# Altium integrated library SparkFun-Retired.Library.IntLib: 390 symbols (part 2 of 5)
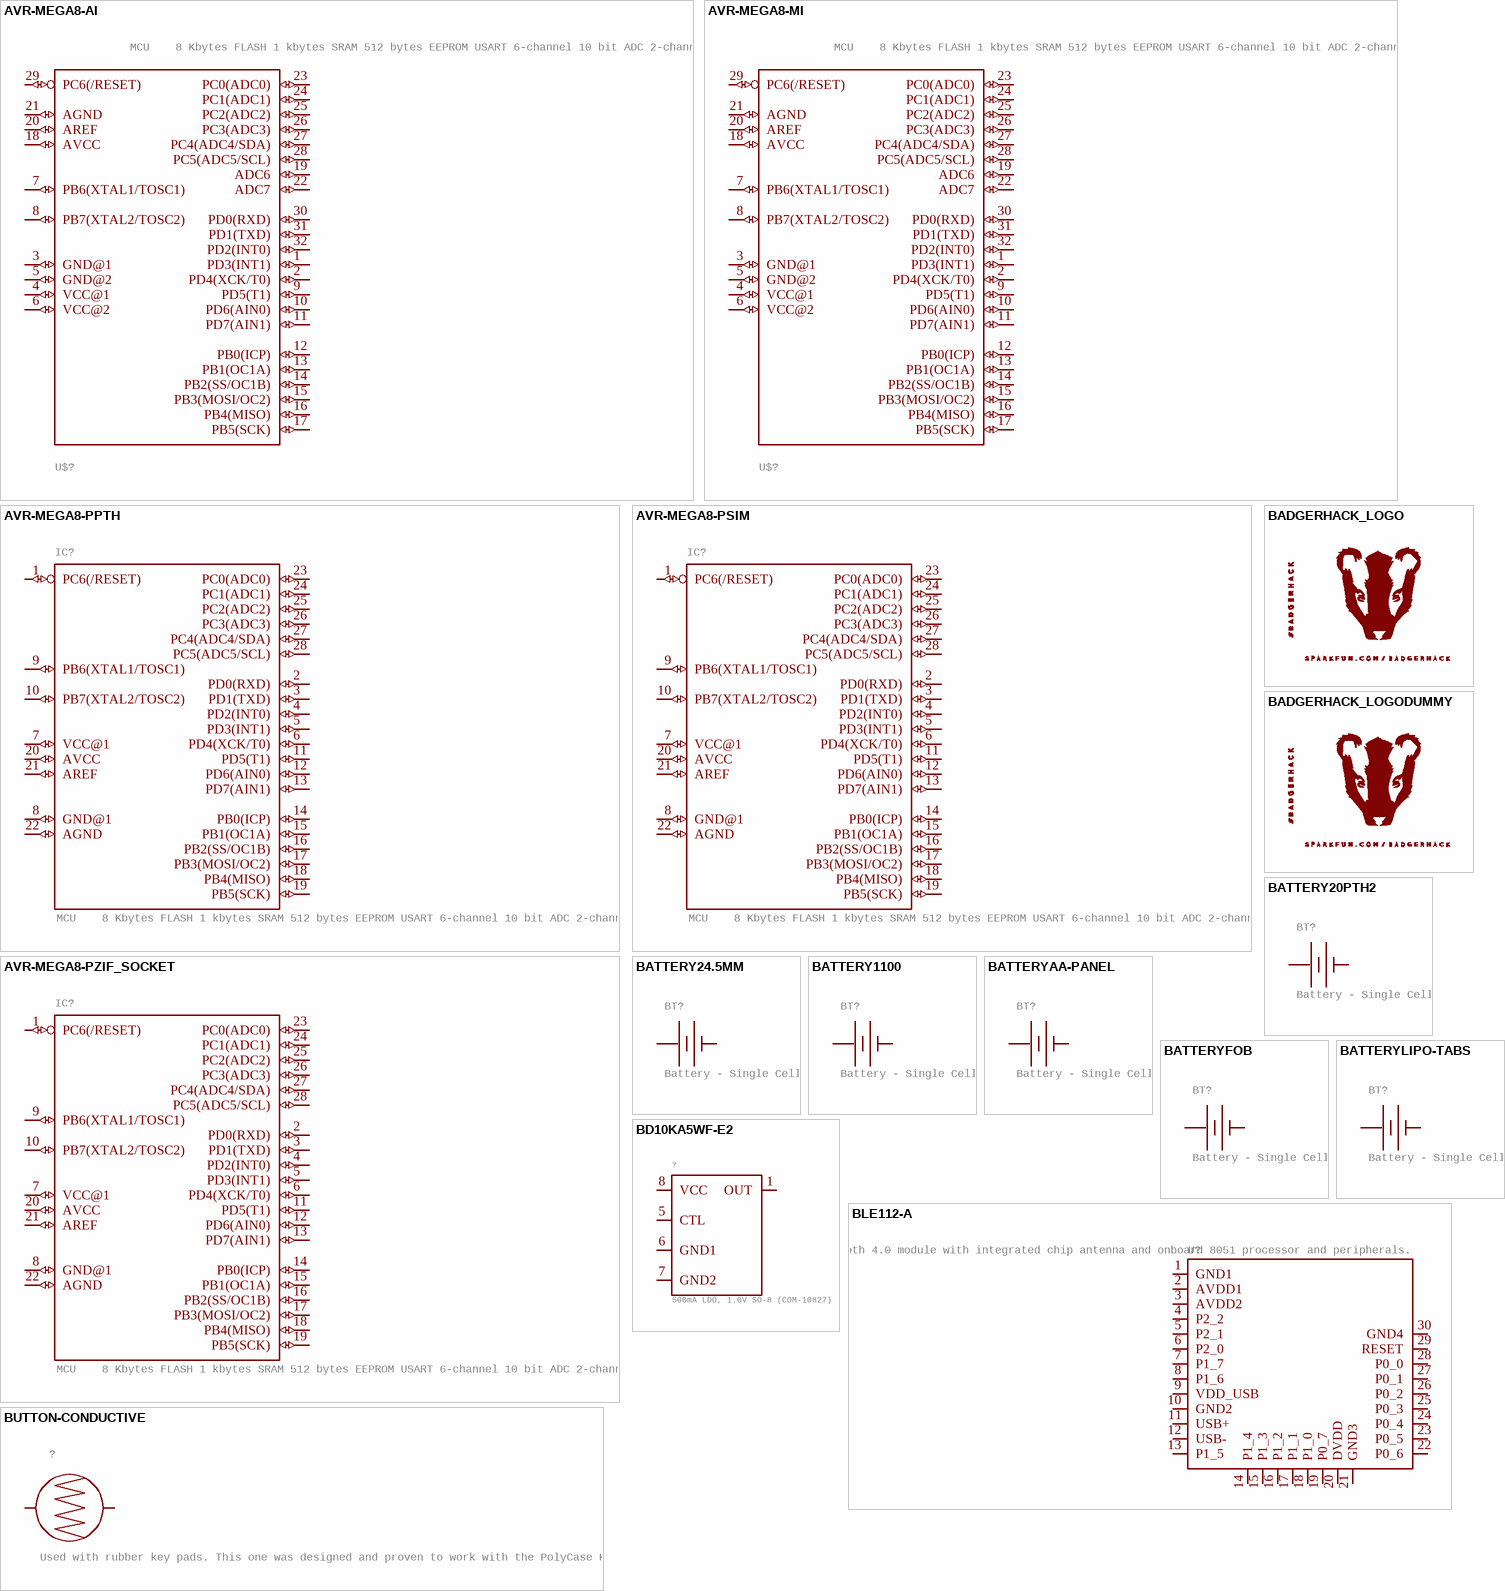
[diagram p27: symbols AVR-MEGA8-AI to BUTTON-CONDUCTIVE]

## AVR-MEGA8-PPTH
designator IC?, comment MCU    8 Kbytes FLASH 1 kbytes SRAM 512 bytes EEPROM USART 6-channel 10 bit ADC 2-channel 8 bit ADC  SparkFun Products  None.
GateName_1: G$1; SymbolName_1: 23-I/O-2; DeviceName: PTH; DeviceSetName: AVR-MEGA8-P; LibraryName: SparkFun-Retired; Package: DIP28_MCU
footprint DIP28_MCU
pins: 1 PC6(/RESET) (io), 2 PD0(RXD) (io), 3 PD1(TXD) (io), 4 PD2(INT0) (io), 5 PD3(INT1) (io), 6 PD4(XCK/T0) (io), 7 VCC@1 (io), 8 GND@1 (io), 9 PB6(XTAL1/TOSC1) (io), 10 PB7(XTAL2/TOSC2) (io), 11 PD5(T1) (io), 12 PD6(AIN0) (io), 13 PD7(AIN1) (io), 14 PB0(ICP) (io), 15 PB1(OC1A) (io), 16 PB2(SS/OC1B) (io), 17 PB3(MOSI/OC2) (io), 18 PB4(MISO) (io), 19 PB5(SCK) (io), 20 AVCC (io), 21 AREF (io), 22 AGND (io), 23 PC0(ADC0) (io), 24 PC1(ADC1) (io), 25 PC2(ADC2) (io), 26 PC3(ADC3) (io), 27 PC4(ADC4/SDA) (io), 28 PC5(ADC5/SCL) (io)

## AVR-MEGA8-PSIM
designator IC?, comment MCU    8 Kbytes FLASH 1 kbytes SRAM 512 bytes EEPROM USART 6-channel 10 bit ADC 2-channel 8 bit ADC  SparkFun Products  None.
GateName_1: G$1; SymbolName_1: 23-I/O-2; DeviceName: SIM; DeviceSetName: AVR-MEGA8-P; LibraryName: SparkFun-Retired; Package: DIP28-KIT_MCU
footprint DIP28-KIT_MCU
pins: 1 PC6(/RESET) (io), 2 PD0(RXD) (io), 3 PD1(TXD) (io), 4 PD2(INT0) (io), 5 PD3(INT1) (io), 6 PD4(XCK/T0) (io), 7 VCC@1 (io), 8 GND@1 (io), 9 PB6(XTAL1/TOSC1) (io), 10 PB7(XTAL2/TOSC2) (io), 11 PD5(T1) (io), 12 PD6(AIN0) (io), 13 PD7(AIN1) (io), 14 PB0(ICP) (io), 15 PB1(OC1A) (io), 16 PB2(SS/OC1B) (io), 17 PB3(MOSI/OC2) (io), 18 PB4(MISO) (io), 19 PB5(SCK) (io), 20 AVCC (io), 21 AREF (io), 22 AGND (io), 23 PC0(ADC0) (io), 24 PC1(ADC1) (io), 25 PC2(ADC2) (io), 26 PC3(ADC3) (io), 27 PC4(ADC4/SDA) (io), 28 PC5(ADC5/SCL) (io)

## AVR-MEGA8-PZIF_SOCKET
designator IC?, comment MCU    8 Kbytes FLASH 1 kbytes SRAM 512 bytes EEPROM USART 6-channel 10 bit ADC 2-channel 8 bit ADC  SparkFun Products  None.
GateName_1: G$1; SymbolName_1: 23-I/O-2; DeviceName: ZIF_SOCKET; DeviceSetName: AVR-MEGA8-P; LibraryName: SparkFun-Retired; Package: DIL28-ZIF_SOCKET_MCU
footprint DIL28-ZIF_SOCKET_MCU
pins: 1 PC6(/RESET) (io), 2 PD0(RXD) (io), 3 PD1(TXD) (io), 4 PD2(INT0) (io), 5 PD3(INT1) (io), 6 PD4(XCK/T0) (io), 7 VCC@1 (io), 8 GND@1 (io), 9 PB6(XTAL1/TOSC1) (io), 10 PB7(XTAL2/TOSC2) (io), 11 PD5(T1) (io), 12 PD6(AIN0) (io), 13 PD7(AIN1) (io), 14 PB0(ICP) (io), 15 PB1(OC1A) (io), 16 PB2(SS/OC1B) (io), 17 PB3(MOSI/OC2) (io), 18 PB4(MISO) (io), 19 PB5(SCK) (io), 20 AVCC (io), 21 AREF (io), 22 AGND (io), 23 PC0(ADC0) (io), 24 PC1(ADC1) (io), 25 PC2(ADC2) (io), 26 PC3(ADC3) (io), 27 PC4(ADC4/SDA) (io), 28 PC5(ADC5/SCL) (io)

## BADGERHACK_LOGO
designator ?
GateName_1: G$1; SymbolName_1: BADGER_HACK_LOGO; DeviceSetName: BADGERHACK_LOGO; LibraryName: SparkFun-Retired; Package: BADGER_HACK
footprint BADGER_HACK

## BADGERHACK_LOGODUMMY
designator ?
GateName_1: G$1; SymbolName_1: BADGER_HACK_LOGO; DeviceName: DUMMY; DeviceSetName: BADGERHACK_LOGO; LibraryName: SparkFun-Retired; Package: DUMMY
footprint DUMMY

## BATTERY20PTH2
designator BT?, comment Battery - Single Cell    A variety of battery chemistries, sizes, and footprints.   Including AA, AAA, 18650 (PRT-12895), 20mm coin cell and 12mm coin cell.20MM_4LEGS, BATT-10373
GateName_1: G$1; DeviceName: 20PTH2; SymbolName_1: BATTERY; LibraryName: SparkFun-Retired; DeviceSetName: BATTERY; Package: BATTERY
footprint BATTERY
pins: + (power), - (power)

## BATTERY24.5MM
designator BT?, comment Battery - Single Cell    A variety of battery chemistries, sizes, and footprints.   Including AA, AAA, 18650 (PRT-12895), 20mm coin cell and 12mm coin cell.20MM_4LEGS, BATT-10373
GateName_1: G$1; DeviceName: 24.5MM; SymbolName_1: BATTERY; LibraryName: SparkFun-Retired; DeviceSetName: BATTERY; Package: BATTCON_24.5MM
footprint BATTCON_24.5MM
pins: 1 + (power), 2 - (power)

## BATTERY1100
designator BT?, comment Battery - Single Cell    A variety of battery chemistries, sizes, and footprints.   Including AA, AAA, 18650 (PRT-12895), 20mm coin cell and 12mm coin cell.20MM_4LEGS, BATT-10373
GateName_1: G$1; DeviceName: 1100; SymbolName_1: BATTERY; LibraryName: SparkFun-Retired; DeviceSetName: BATTERY; Package: LIPO-1100MAH
footprint LIPO-1100MAH
pins: + (power), - (power)

## BATTERYAA-PANEL
designator BT?, comment Battery - Single Cell    A variety of battery chemistries, sizes, and footprints.   Including AA, AAA, 18650 (PRT-12895), 20mm coin cell and 12mm coin cell.20MM_4LEGS, BATT-10373
GateName_1: G$1; DeviceName: AA-PANEL; SymbolName_1: BATTERY; LibraryName: SparkFun-Retired; DeviceSetName: BATTERY; Package: BATTERY-AA-PANEL
footprint BATTERY-AA-PANEL
pins: + (power), - (power)

## BATTERYFOB
designator BT?, comment Battery - Single Cell    A variety of battery chemistries, sizes, and footprints.   Including AA, AAA, 18650 (PRT-12895), 20mm coin cell and 12mm coin cell.20MM_4LEGS, BATT-10373
GateName_1: G$1; DeviceName: FOB; SymbolName_1: BATTERY; LibraryName: SparkFun-Retired; DeviceSetName: BATTERY; Package: BATTERY_20MM_PTH_COMPACT
footprint BATTERY_20MM_PTH_COMPACT
pins: 1 + (power), 2 - (power)

## BATTERYLIPO-TABS
designator BT?, comment Battery - Single Cell    A variety of battery chemistries, sizes, and footprints.   Including AA, AAA, 18650 (PRT-12895), 20mm coin cell and 12mm coin cell.20MM_4LEGS, BATT-10373
GateName_1: G$1; DeviceName: LIPO-TABS; SymbolName_1: BATTERY; LibraryName: SparkFun-Retired; DeviceSetName: BATTERY; Package: LIPO-110-TABS
footprint LIPO-110-TABS
pins: + (power), - (power)

## BD10KA5WF-E2
designator ?, comment 500mA LDO, 1.0V SO-8 (COM-10827)
GateName_1: G$1; SymbolName_1: BD10KA5WF-E2; LibraryName: SparkFun-Retired; DeviceSetName: BD10KA5WF-E2; Package: SO08WIDE
footprint SO08WIDE
pins: 1 OUT (io), 5 CTL (io), 6 GND1 (io), 7 GND2 (io), 8 VCC (io)

## BLE112-A
designator U?, comment BlueGiga Bluetooth 4.0 module    Bluetooth 4.0 module with integrated chip antenna and onboard 8051 processor and peripherals.
GateName_1: G$1; SymbolName_1: BLE112-A; LibraryName: SparkFun-Retired; DeviceSetName: BLE112-A; Package: BLE112-A
footprint BLE112-A
pins: 1 GND1 (io), 2 AVDD1 (io), 3 AVDD2 (io), 4 P2_2 (io), 5 P2_1 (io), 6 P2_0 (io), 7 P1_7 (io), 8 P1_6 (io), 9 VDD_USB (io), 10 GND2 (io), 11 USB+ (io), 12 USB- (io), 13 P1_5 (io), 14 P1_4 (io), 15 P1_3 (io), 16 P1_2 (io), 17 P1_1 (io), 18 P1_0 (io), 19 P0_7 (io), 20 DVDD (io), 21 GND3 (io), 22 P0_6 (io), 23 P0_5 (io), 24 P0_4 (io), 25 P0_3 (io), 26 P0_2 (io), 27 P0_1 (io), 28 P0_0 (io), 29 RESET (io), 30 GND4 (io)

## BUTTON-CONDUCTIVE
designator ?, comment Used with rubber key pads. This one was designed and proven to work with the PolyCase Key FOB enclosures.
GateName_1: G$1; SymbolName_1: BUTTON-CONDUCTIVE; LibraryName: SparkFun-Retired; DeviceSetName: BUTTON-CONDUCTIVE; Package: BUTTON-CONDUCTIVE-MINI
footprint BUTTON-CONDUCTIVE-MINI
pins: 1, 2

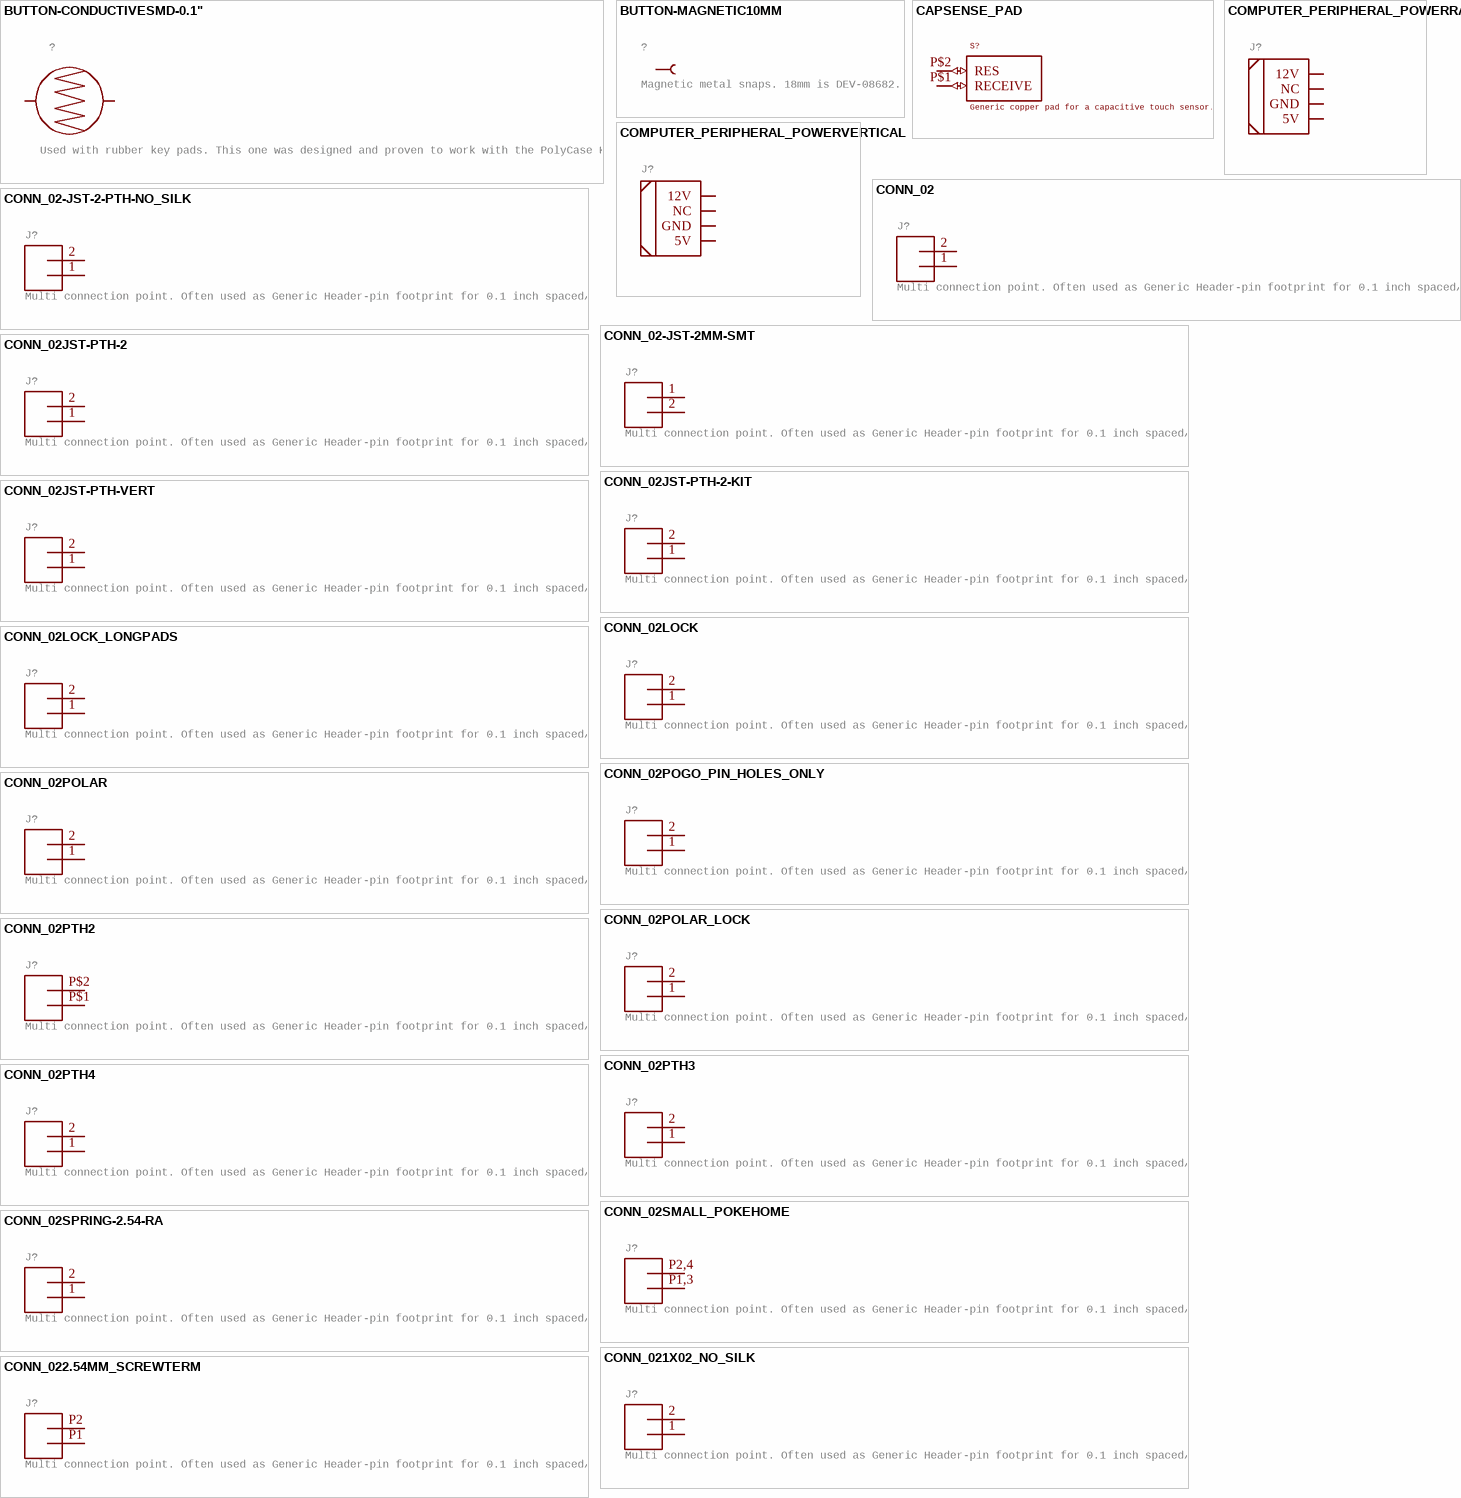
[diagram p7: symbols BUTTON-CONDUCTIVESMD-0.1" to CONN_022.54MM_SCREWTERM]

## BUTTON-CONDUCTIVESMD-0.1"
designator ?, comment Used with rubber key pads. This one was designed and proven to work with the PolyCase Key FOB enclosures.
GateName_1: G$1; SymbolName_1: BUTTON-CONDUCTIVE; DeviceName: SMD-0.1"; LibraryName: SparkFun-Retired; DeviceSetName: BUTTON-CONDUCTIVE; Package: BUTTON-CONDUCTIVE-0.1
footprint BUTTON-CONDUCTIVE-0.1
pins: 1, 2

## BUTTON-MAGNETIC10MM
designator ?, comment Magnetic metal snaps. 18mm is DEV-08682.
GateName_1: G$1; SymbolName_1: SEWTAP; DeviceName: 10MM; DeviceSetName: BUTTON-MAGNETIC; SF_SKU: DEV-08697; LibraryName: SparkFun-Retired; Package: BUTTON-10MM
footprint BUTTON-10MM
pins: 1 (io)

## CAPSENSE_PAD
designator S?, comment Generic copper pad for a capacitive touch sensor.
GateName_1: G$1; SymbolName_1: CAPSENSE_PAD; LibraryName: SparkFun-Retired; DeviceSetName: CAPSENSE_PAD; Package: CAPSENSE_PAD
footprint CAPSENSE_PAD
pins: P$1 RECEIVE (io), P$2 RES (io)

## COMPUTER_PERIPHERAL_POWERRA
designator J?
GateName_1: G$1; SymbolName_1: COMPUTER-PERIPHERAL-POWER; DeviceName: RA; DeviceSetName: COMPUTER_PERIPHERAL_POWER; LibraryName: SparkFun-Retired; Package: COMPUTER-PERIPHERAL-POWER-RA
footprint COMPUTER-PERIPHERAL-POWER-RA
pins: 5V, 12V, GND, NC

## COMPUTER_PERIPHERAL_POWERVERTICAL
designator J?
GateName_1: G$1; SymbolName_1: COMPUTER-PERIPHERAL-POWER; DeviceName: VERTICAL; DeviceSetName: COMPUTER_PERIPHERAL_POWER; LibraryName: SparkFun-Retired; Package: COMPUTER-PERIPHERAL-POWER
footprint COMPUTER-PERIPHERAL-POWER
pins: 5V, 12V, GND, NC

## CONN_02
designator J?, comment Multi connection point. Often used as Generic Header-pin footprint for 0.1 inch spaced/style header connections    On any of the 0.1 inch spaced packages, you can populate with these:  Break Away Headers - Straight (PRT-00116)   Break Away Male Headers - Right Angle (PRT-00553)   Female Headers (PRT-00115)   Break Away Headers - Machine Pin (PRT-00117)   Break Away Female Headers - Swiss Machine Pin (PRT-00743)        For SCREWTERMINALS and SPRING TERMINALS visit here:  Screw Terimnals on SparkFun.com (5mm/3.5mm/2.54mm spacing)       This device is also useful as a general connection point to wire up your design to another part of your project. Our various solder wires solder well into these plated through hole pads.  Hook-Up Wire - Assortment (Stranded, 22 AWG) (PRT-11375)   Hook-Up Wire - Assortment (Solid Core, 22 AWG) (PRT-11367)   View the entire wire category on our website here          Special notes: Molex polarized connector foot print use with: PRT-08233 with associated crimp pins and housings.  2.54_SCREWTERM for use with  PRT-10571.  3.5mm Screw Terminal footprints for  PRT-08084  5mm Screw Terminal footprints for use with PRT-08432
GateName_1: G$1; SymbolName_1: CONN_02; LibraryName: SparkFun-Retired; DeviceSetName: CONN_02; Package: 1X02
footprint 1X02
pins: 1, 2

## CONN_02-JST-2-PTH-NO_SILK
designator J?, comment Multi connection point. Often used as Generic Header-pin footprint for 0.1 inch spaced/style header connections    On any of the 0.1 inch spaced packages, you can populate with these:  Break Away Headers - Straight (PRT-00116)   Break Away Male Headers - Right Angle (PRT-00553)   Female Headers (PRT-00115)   Break Away Headers - Machine Pin (PRT-00117)   Break Away Female Headers - Swiss Machine Pin (PRT-00743)        For SCREWTERMINALS and SPRING TERMINALS visit here:  Screw Terimnals on SparkFun.com (5mm/3.5mm/2.54mm spacing)       This device is also useful as a general connection point to wire up your design to another part of your project. Our various solder wires solder well into these plated through hole pads.  Hook-Up Wire - Assortment (Stranded, 22 AWG) (PRT-11375)   Hook-Up Wire - Assortment (Solid Core, 22 AWG) (PRT-11367)   View the entire wire category on our website here          Special notes: Molex polarized connector foot print use with: PRT-08233 with associated crimp pins and housings.  2.54_SCREWTERM for use with  PRT-10571.  3.5mm Screw Terminal footprints for  PRT-08084  5mm Screw Terminal footprints for use with PRT-08432
GateName_1: G$1; SymbolName_1: CONN_02; DeviceName: -JST-2-PTH-NO_SILK; LibraryName: SparkFun-Retired; DeviceSetName: CONN_02; Package: JST-2-PTH-NS
footprint JST-2-PTH-NS
pins: 1, 2

## CONN_02-JST-2MM-SMT
designator J?, comment Multi connection point. Often used as Generic Header-pin footprint for 0.1 inch spaced/style header connections    On any of the 0.1 inch spaced packages, you can populate with these:  Break Away Headers - Straight (PRT-00116)   Break Away Male Headers - Right Angle (PRT-00553)   Female Headers (PRT-00115)   Break Away Headers - Machine Pin (PRT-00117)   Break Away Female Headers - Swiss Machine Pin (PRT-00743)        For SCREWTERMINALS and SPRING TERMINALS visit here:  Screw Terimnals on SparkFun.com (5mm/3.5mm/2.54mm spacing)       This device is also useful as a general connection point to wire up your design to another part of your project. Our various solder wires solder well into these plated through hole pads.  Hook-Up Wire - Assortment (Stranded, 22 AWG) (PRT-11375)   Hook-Up Wire - Assortment (Solid Core, 22 AWG) (PRT-11367)   View the entire wire category on our website here          Special notes: Molex polarized connector foot print use with: PRT-08233 with associated crimp pins and housings.  2.54_SCREWTERM for use with  PRT-10571.  3.5mm Screw Terminal footprints for  PRT-08084  5mm Screw Terminal footprints for use with PRT-08432
GateName_1: G$1; SymbolName_1: CONN_02; DeviceName: -JST-2MM-SMT; PROD_ID: CONN-11443; LibraryName: SparkFun-Retired; DeviceSetName: CONN_02; Package: JST-2-SMD
footprint JST-2-SMD
pins: 1 2, 2 1

## CONN_02JST-PTH-2
designator J?, comment Multi connection point. Often used as Generic Header-pin footprint for 0.1 inch spaced/style header connections    On any of the 0.1 inch spaced packages, you can populate with these:  Break Away Headers - Straight (PRT-00116)   Break Away Male Headers - Right Angle (PRT-00553)   Female Headers (PRT-00115)   Break Away Headers - Machine Pin (PRT-00117)   Break Away Female Headers - Swiss Machine Pin (PRT-00743)        For SCREWTERMINALS and SPRING TERMINALS visit here:  Screw Terimnals on SparkFun.com (5mm/3.5mm/2.54mm spacing)       This device is also useful as a general connection point to wire up your design to another part of your project. Our various solder wires solder well into these plated through hole pads.  Hook-Up Wire - Assortment (Stranded, 22 AWG) (PRT-11375)   Hook-Up Wire - Assortment (Solid Core, 22 AWG) (PRT-11367)   View the entire wire category on our website here          Special notes: Molex polarized connector foot print use with: PRT-08233 with associated crimp pins and housings.  2.54_SCREWTERM for use with  PRT-10571.  3.5mm Screw Terminal footprints for  PRT-08084  5mm Screw Terminal footprints for use with PRT-08432
GateName_1: G$1; SymbolName_1: CONN_02; DeviceName: JST-PTH-2; PROD_ID: CONN-09863; LibraryName: SparkFun-Retired; DeviceSetName: CONN_02; Package: JST-2-PTH; SKU: PRT-09914
footprint JST-2-PTH
pins: 1, 2

## CONN_02JST-PTH-2-KIT
designator J?, comment Multi connection point. Often used as Generic Header-pin footprint for 0.1 inch spaced/style header connections    On any of the 0.1 inch spaced packages, you can populate with these:  Break Away Headers - Straight (PRT-00116)   Break Away Male Headers - Right Angle (PRT-00553)   Female Headers (PRT-00115)   Break Away Headers - Machine Pin (PRT-00117)   Break Away Female Headers - Swiss Machine Pin (PRT-00743)        For SCREWTERMINALS and SPRING TERMINALS visit here:  Screw Terimnals on SparkFun.com (5mm/3.5mm/2.54mm spacing)       This device is also useful as a general connection point to wire up your design to another part of your project. Our various solder wires solder well into these plated through hole pads.  Hook-Up Wire - Assortment (Stranded, 22 AWG) (PRT-11375)   Hook-Up Wire - Assortment (Solid Core, 22 AWG) (PRT-11367)   View the entire wire category on our website here          Special notes: Molex polarized connector foot print use with: PRT-08233 with associated crimp pins and housings.  2.54_SCREWTERM for use with  PRT-10571.  3.5mm Screw Terminal footprints for  PRT-08084  5mm Screw Terminal footprints for use with PRT-08432
GateName_1: G$1; SymbolName_1: CONN_02; DeviceName: JST-PTH-2-KIT; LibraryName: SparkFun-Retired; DeviceSetName: CONN_02; Package: JST-2-PTH-KIT
footprint JST-2-PTH-KIT
pins: 1, 2

## CONN_02JST-PTH-VERT
designator J?, comment Multi connection point. Often used as Generic Header-pin footprint for 0.1 inch spaced/style header connections    On any of the 0.1 inch spaced packages, you can populate with these:  Break Away Headers - Straight (PRT-00116)   Break Away Male Headers - Right Angle (PRT-00553)   Female Headers (PRT-00115)   Break Away Headers - Machine Pin (PRT-00117)   Break Away Female Headers - Swiss Machine Pin (PRT-00743)        For SCREWTERMINALS and SPRING TERMINALS visit here:  Screw Terimnals on SparkFun.com (5mm/3.5mm/2.54mm spacing)       This device is also useful as a general connection point to wire up your design to another part of your project. Our various solder wires solder well into these plated through hole pads.  Hook-Up Wire - Assortment (Stranded, 22 AWG) (PRT-11375)   Hook-Up Wire - Assortment (Solid Core, 22 AWG) (PRT-11367)   View the entire wire category on our website here          Special notes: Molex polarized connector foot print use with: PRT-08233 with associated crimp pins and housings.  2.54_SCREWTERM for use with  PRT-10571.  3.5mm Screw Terminal footprints for  PRT-08084  5mm Screw Terminal footprints for use with PRT-08432
GateName_1: G$1; SymbolName_1: CONN_02; DeviceName: JST-PTH-VERT; PROD_ID: CONN-12097; LibraryName: SparkFun-Retired; DeviceSetName: CONN_02; Package: JST-2-PTH-VERT
footprint JST-2-PTH-VERT
pins: 1, 2

## CONN_02LOCK
designator J?, comment Multi connection point. Often used as Generic Header-pin footprint for 0.1 inch spaced/style header connections    On any of the 0.1 inch spaced packages, you can populate with these:  Break Away Headers - Straight (PRT-00116)   Break Away Male Headers - Right Angle (PRT-00553)   Female Headers (PRT-00115)   Break Away Headers - Machine Pin (PRT-00117)   Break Away Female Headers - Swiss Machine Pin (PRT-00743)        For SCREWTERMINALS and SPRING TERMINALS visit here:  Screw Terimnals on SparkFun.com (5mm/3.5mm/2.54mm spacing)       This device is also useful as a general connection point to wire up your design to another part of your project. Our various solder wires solder well into these plated through hole pads.  Hook-Up Wire - Assortment (Stranded, 22 AWG) (PRT-11375)   Hook-Up Wire - Assortment (Solid Core, 22 AWG) (PRT-11367)   View the entire wire category on our website here          Special notes: Molex polarized connector foot print use with: PRT-08233 with associated crimp pins and housings.  2.54_SCREWTERM for use with  PRT-10571.  3.5mm Screw Terminal footprints for  PRT-08084  5mm Screw Terminal footprints for use with PRT-08432
GateName_1: G$1; SymbolName_1: CONN_02; DeviceName: LOCK; LibraryName: SparkFun-Retired; DeviceSetName: CONN_02; Package: 1X02_LOCK
footprint 1X02_LOCK
pins: 1, 2

## CONN_02LOCK_LONGPADS
designator J?, comment Multi connection point. Often used as Generic Header-pin footprint for 0.1 inch spaced/style header connections    On any of the 0.1 inch spaced packages, you can populate with these:  Break Away Headers - Straight (PRT-00116)   Break Away Male Headers - Right Angle (PRT-00553)   Female Headers (PRT-00115)   Break Away Headers - Machine Pin (PRT-00117)   Break Away Female Headers - Swiss Machine Pin (PRT-00743)        For SCREWTERMINALS and SPRING TERMINALS visit here:  Screw Terimnals on SparkFun.com (5mm/3.5mm/2.54mm spacing)       This device is also useful as a general connection point to wire up your design to another part of your project. Our various solder wires solder well into these plated through hole pads.  Hook-Up Wire - Assortment (Stranded, 22 AWG) (PRT-11375)   Hook-Up Wire - Assortment (Solid Core, 22 AWG) (PRT-11367)   View the entire wire category on our website here          Special notes: Molex polarized connector foot print use with: PRT-08233 with associated crimp pins and housings.  2.54_SCREWTERM for use with  PRT-10571.  3.5mm Screw Terminal footprints for  PRT-08084  5mm Screw Terminal footprints for use with PRT-08432
GateName_1: G$1; SymbolName_1: CONN_02; DeviceName: LOCK_LONGPADS; LibraryName: SparkFun-Retired; DeviceSetName: CONN_02; Package: 1X02_LOCK_LONGPADS
footprint 1X02_LOCK_LONGPADS
pins: 1, 2

## CONN_02POGO_PIN_HOLES_ONLY
designator J?, comment Multi connection point. Often used as Generic Header-pin footprint for 0.1 inch spaced/style header connections    On any of the 0.1 inch spaced packages, you can populate with these:  Break Away Headers - Straight (PRT-00116)   Break Away Male Headers - Right Angle (PRT-00553)   Female Headers (PRT-00115)   Break Away Headers - Machine Pin (PRT-00117)   Break Away Female Headers - Swiss Machine Pin (PRT-00743)        For SCREWTERMINALS and SPRING TERMINALS visit here:  Screw Terimnals on SparkFun.com (5mm/3.5mm/2.54mm spacing)       This device is also useful as a general connection point to wire up your design to another part of your project. Our various solder wires solder well into these plated through hole pads.  Hook-Up Wire - Assortment (Stranded, 22 AWG) (PRT-11375)   Hook-Up Wire - Assortment (Solid Core, 22 AWG) (PRT-11367)   View the entire wire category on our website here          Special notes: Molex polarized connector foot print use with: PRT-08233 with associated crimp pins and housings.  2.54_SCREWTERM for use with  PRT-10571.  3.5mm Screw Terminal footprints for  PRT-08084  5mm Screw Terminal footprints for use with PRT-08432
GateName_1: G$1; SymbolName_1: CONN_02; DeviceName: POGO_PIN_HOLES_ONLY; LibraryName: SparkFun-Retired; DeviceSetName: CONN_02; Package: 1X02_PP_HOLES_ONLY
footprint 1X02_PP_HOLES_ONLY
pins: 1, 2

## CONN_02POLAR
designator J?, comment Multi connection point. Often used as Generic Header-pin footprint for 0.1 inch spaced/style header connections    On any of the 0.1 inch spaced packages, you can populate with these:  Break Away Headers - Straight (PRT-00116)   Break Away Male Headers - Right Angle (PRT-00553)   Female Headers (PRT-00115)   Break Away Headers - Machine Pin (PRT-00117)   Break Away Female Headers - Swiss Machine Pin (PRT-00743)        For SCREWTERMINALS and SPRING TERMINALS visit here:  Screw Terimnals on SparkFun.com (5mm/3.5mm/2.54mm spacing)       This device is also useful as a general connection point to wire up your design to another part of your project. Our various solder wires solder well into these plated through hole pads.  Hook-Up Wire - Assortment (Stranded, 22 AWG) (PRT-11375)   Hook-Up Wire - Assortment (Solid Core, 22 AWG) (PRT-11367)   View the entire wire category on our website here          Special notes: Molex polarized connector foot print use with: PRT-08233 with associated crimp pins and housings.  2.54_SCREWTERM for use with  PRT-10571.  3.5mm Screw Terminal footprints for  PRT-08084  5mm Screw Terminal footprints for use with PRT-08432
GateName_1: G$1; SymbolName_1: CONN_02; DeviceName: POLAR; SF_ID: PRT-09918; LibraryName: SparkFun-Retired; DeviceSetName: CONN_02; Package: MOLEX-1X2
footprint MOLEX-1X2
pins: 1, 2

## CONN_02POLAR_LOCK
designator J?, comment Multi connection point. Often used as Generic Header-pin footprint for 0.1 inch spaced/style header connections    On any of the 0.1 inch spaced packages, you can populate with these:  Break Away Headers - Straight (PRT-00116)   Break Away Male Headers - Right Angle (PRT-00553)   Female Headers (PRT-00115)   Break Away Headers - Machine Pin (PRT-00117)   Break Away Female Headers - Swiss Machine Pin (PRT-00743)        For SCREWTERMINALS and SPRING TERMINALS visit here:  Screw Terimnals on SparkFun.com (5mm/3.5mm/2.54mm spacing)       This device is also useful as a general connection point to wire up your design to another part of your project. Our various solder wires solder well into these plated through hole pads.  Hook-Up Wire - Assortment (Stranded, 22 AWG) (PRT-11375)   Hook-Up Wire - Assortment (Solid Core, 22 AWG) (PRT-11367)   View the entire wire category on our website here          Special notes: Molex polarized connector foot print use with: PRT-08233 with associated crimp pins and housings.  2.54_SCREWTERM for use with  PRT-10571.  3.5mm Screw Terminal footprints for  PRT-08084  5mm Screw Terminal footprints for use with PRT-08432
GateName_1: G$1; SymbolName_1: CONN_02; DeviceName: POLAR_LOCK; SF_ID: PRT-09918; LibraryName: SparkFun-Retired; DeviceSetName: CONN_02; Package: MOLEX-1X2_LOCK
footprint MOLEX-1X2_LOCK
pins: 1, 2

## CONN_02PTH2
designator J?, comment Multi connection point. Often used as Generic Header-pin footprint for 0.1 inch spaced/style header connections    On any of the 0.1 inch spaced packages, you can populate with these:  Break Away Headers - Straight (PRT-00116)   Break Away Male Headers - Right Angle (PRT-00553)   Female Headers (PRT-00115)   Break Away Headers - Machine Pin (PRT-00117)   Break Away Female Headers - Swiss Machine Pin (PRT-00743)        For SCREWTERMINALS and SPRING TERMINALS visit here:  Screw Terimnals on SparkFun.com (5mm/3.5mm/2.54mm spacing)       This device is also useful as a general connection point to wire up your design to another part of your project. Our various solder wires solder well into these plated through hole pads.  Hook-Up Wire - Assortment (Stranded, 22 AWG) (PRT-11375)   Hook-Up Wire - Assortment (Solid Core, 22 AWG) (PRT-11367)   View the entire wire category on our website here          Special notes: Molex polarized connector foot print use with: PRT-08233 with associated crimp pins and housings.  2.54_SCREWTERM for use with  PRT-10571.  3.5mm Screw Terminal footprints for  PRT-08084  5mm Screw Terminal footprints for use with PRT-08432
GateName_1: G$1; SymbolName_1: CONN_02; DeviceName: PTH2; LibraryName: SparkFun-Retired; DeviceSetName: CONN_02; Package: 1X02_BIG
footprint 1X02_BIG
pins: P$1 1, P$2 2

## CONN_02PTH3
designator J?, comment Multi connection point. Often used as Generic Header-pin footprint for 0.1 inch spaced/style header connections    On any of the 0.1 inch spaced packages, you can populate with these:  Break Away Headers - Straight (PRT-00116)   Break Away Male Headers - Right Angle (PRT-00553)   Female Headers (PRT-00115)   Break Away Headers - Machine Pin (PRT-00117)   Break Away Female Headers - Swiss Machine Pin (PRT-00743)        For SCREWTERMINALS and SPRING TERMINALS visit here:  Screw Terimnals on SparkFun.com (5mm/3.5mm/2.54mm spacing)       This device is also useful as a general connection point to wire up your design to another part of your project. Our various solder wires solder well into these plated through hole pads.  Hook-Up Wire - Assortment (Stranded, 22 AWG) (PRT-11375)   Hook-Up Wire - Assortment (Solid Core, 22 AWG) (PRT-11367)   View the entire wire category on our website here          Special notes: Molex polarized connector foot print use with: PRT-08233 with associated crimp pins and housings.  2.54_SCREWTERM for use with  PRT-10571.  3.5mm Screw Terminal footprints for  PRT-08084  5mm Screw Terminal footprints for use with PRT-08432
GateName_1: G$1; SymbolName_1: CONN_02; DeviceName: PTH3; LibraryName: SparkFun-Retired; DeviceSetName: CONN_02; Package: 1X02_LONGPADS
footprint 1X02_LONGPADS
pins: 1, 2

## CONN_02PTH4
designator J?, comment Multi connection point. Often used as Generic Header-pin footprint for 0.1 inch spaced/style header connections    On any of the 0.1 inch spaced packages, you can populate with these:  Break Away Headers - Straight (PRT-00116)   Break Away Male Headers - Right Angle (PRT-00553)   Female Headers (PRT-00115)   Break Away Headers - Machine Pin (PRT-00117)   Break Away Female Headers - Swiss Machine Pin (PRT-00743)        For SCREWTERMINALS and SPRING TERMINALS visit here:  Screw Terimnals on SparkFun.com (5mm/3.5mm/2.54mm spacing)       This device is also useful as a general connection point to wire up your design to another part of your project. Our various solder wires solder well into these plated through hole pads.  Hook-Up Wire - Assortment (Stranded, 22 AWG) (PRT-11375)   Hook-Up Wire - Assortment (Solid Core, 22 AWG) (PRT-11367)   View the entire wire category on our website here          Special notes: Molex polarized connector foot print use with: PRT-08233 with associated crimp pins and housings.  2.54_SCREWTERM for use with  PRT-10571.  3.5mm Screw Terminal footprints for  PRT-08084  5mm Screw Terminal footprints for use with PRT-08432
GateName_1: G$1; SymbolName_1: CONN_02; DeviceName: PTH4; LibraryName: SparkFun-Retired; DeviceSetName: CONN_02; Package: 1X02_XTRA_BIG
footprint 1X02_XTRA_BIG
pins: 1, 2

## CONN_02SMALL_POKEHOME
designator J?, comment Multi connection point. Often used as Generic Header-pin footprint for 0.1 inch spaced/style header connections    On any of the 0.1 inch spaced packages, you can populate with these:  Break Away Headers - Straight (PRT-00116)   Break Away Male Headers - Right Angle (PRT-00553)   Female Headers (PRT-00115)   Break Away Headers - Machine Pin (PRT-00117)   Break Away Female Headers - Swiss Machine Pin (PRT-00743)        For SCREWTERMINALS and SPRING TERMINALS visit here:  Screw Terimnals on SparkFun.com (5mm/3.5mm/2.54mm spacing)       This device is also useful as a general connection point to wire up your design to another part of your project. Our various solder wires solder well into these plated through hole pads.  Hook-Up Wire - Assortment (Stranded, 22 AWG) (PRT-11375)   Hook-Up Wire - Assortment (Solid Core, 22 AWG) (PRT-11367)   View the entire wire category on our website here          Special notes: Molex polarized connector foot print use with: PRT-08233 with associated crimp pins and housings.  2.54_SCREWTERM for use with  PRT-10571.  3.5mm Screw Terminal footprints for  PRT-08084  5mm Screw Terminal footprints for use with PRT-08432
GateName_1: G$1; SymbolName_1: CONN_02; DeviceName: SMALL_POKEHOME; PROD_ID: CONN-13512; LibraryName: SparkFun-Retired; DeviceSetName: CONN_02; Package: 1X02_POKEHOME
footprint 1X02_POKEHOME
pins: P1,3 1, P2,4 2

## CONN_02SPRING-2.54-RA
designator J?, comment Multi connection point. Often used as Generic Header-pin footprint for 0.1 inch spaced/style header connections    On any of the 0.1 inch spaced packages, you can populate with these:  Break Away Headers - Straight (PRT-00116)   Break Away Male Headers - Right Angle (PRT-00553)   Female Headers (PRT-00115)   Break Away Headers - Machine Pin (PRT-00117)   Break Away Female Headers - Swiss Machine Pin (PRT-00743)        For SCREWTERMINALS and SPRING TERMINALS visit here:  Screw Terimnals on SparkFun.com (5mm/3.5mm/2.54mm spacing)       This device is also useful as a general connection point to wire up your design to another part of your project. Our various solder wires solder well into these plated through hole pads.  Hook-Up Wire - Assortment (Stranded, 22 AWG) (PRT-11375)   Hook-Up Wire - Assortment (Solid Core, 22 AWG) (PRT-11367)   View the entire wire category on our website here          Special notes: Molex polarized connector foot print use with: PRT-08233 with associated crimp pins and housings.  2.54_SCREWTERM for use with  PRT-10571.  3.5mm Screw Terminal footprints for  PRT-08084  5mm Screw Terminal footprints for use with PRT-08432
GateName_1: G$1; SymbolName_1: CONN_02; DeviceName: SPRING-2.54-RA; LibraryName: SparkFun-Retired; DeviceSetName: CONN_02; Package: SPRINGTERMINAL-2.54MM-2
footprint SPRINGTERMINAL-2.54MM-2
pins: 1, 2

## CONN_021X02_NO_SILK
designator J?, comment Multi connection point. Often used as Generic Header-pin footprint for 0.1 inch spaced/style header connections    On any of the 0.1 inch spaced packages, you can populate with these:  Break Away Headers - Straight (PRT-00116)   Break Away Male Headers - Right Angle (PRT-00553)   Female Headers (PRT-00115)   Break Away Headers - Machine Pin (PRT-00117)   Break Away Female Headers - Swiss Machine Pin (PRT-00743)        For SCREWTERMINALS and SPRING TERMINALS visit here:  Screw Terimnals on SparkFun.com (5mm/3.5mm/2.54mm spacing)       This device is also useful as a general connection point to wire up your design to another part of your project. Our various solder wires solder well into these plated through hole pads.  Hook-Up Wire - Assortment (Stranded, 22 AWG) (PRT-11375)   Hook-Up Wire - Assortment (Solid Core, 22 AWG) (PRT-11367)   View the entire wire category on our website here          Special notes: Molex polarized connector foot print use with: PRT-08233 with associated crimp pins and housings.  2.54_SCREWTERM for use with  PRT-10571.  3.5mm Screw Terminal footprints for  PRT-08084  5mm Screw Terminal footprints for use with PRT-08432
GateName_1: G$1; SymbolName_1: CONN_02; DeviceName: 1X02_NO_SILK; LibraryName: SparkFun-Retired; DeviceSetName: CONN_02; Package: 1X02_NO_SILK
footprint 1X02_NO_SILK
pins: 1, 2

## CONN_022.54MM_SCREWTERM
designator J?, comment Multi connection point. Often used as Generic Header-pin footprint for 0.1 inch spaced/style header connections    On any of the 0.1 inch spaced packages, you can populate with these:  Break Away Headers - Straight (PRT-00116)   Break Away Male Headers - Right Angle (PRT-00553)   Female Headers (PRT-00115)   Break Away Headers - Machine Pin (PRT-00117)   Break Away Female Headers - Swiss Machine Pin (PRT-00743)        For SCREWTERMINALS and SPRING TERMINALS visit here:  Screw Terimnals on SparkFun.com (5mm/3.5mm/2.54mm spacing)       This device is also useful as a general connection point to wire up your design to another part of your project. Our various solder wires solder well into these plated through hole pads.  Hook-Up Wire - Assortment (Stranded, 22 AWG) (PRT-11375)   Hook-Up Wire - Assortment (Solid Core, 22 AWG) (PRT-11367)   View the entire wire category on our website here          Special notes: Molex polarized connector foot print use with: PRT-08233 with associated crimp pins and housings.  2.54_SCREWTERM for use with  PRT-10571.  3.5mm Screw Terminal footprints for  PRT-08084  5mm Screw Terminal footprints for use with PRT-08432
GateName_1: G$1; SymbolName_1: CONN_02; DeviceName: 2.54MM_SCREWTERM; LibraryName: SparkFun-Retired; DeviceSetName: CONN_02; Package: 1X02_2.54_SCREWTERM
footprint 1X02_2.54_SCREWTERM
pins: P1 1, P2 2

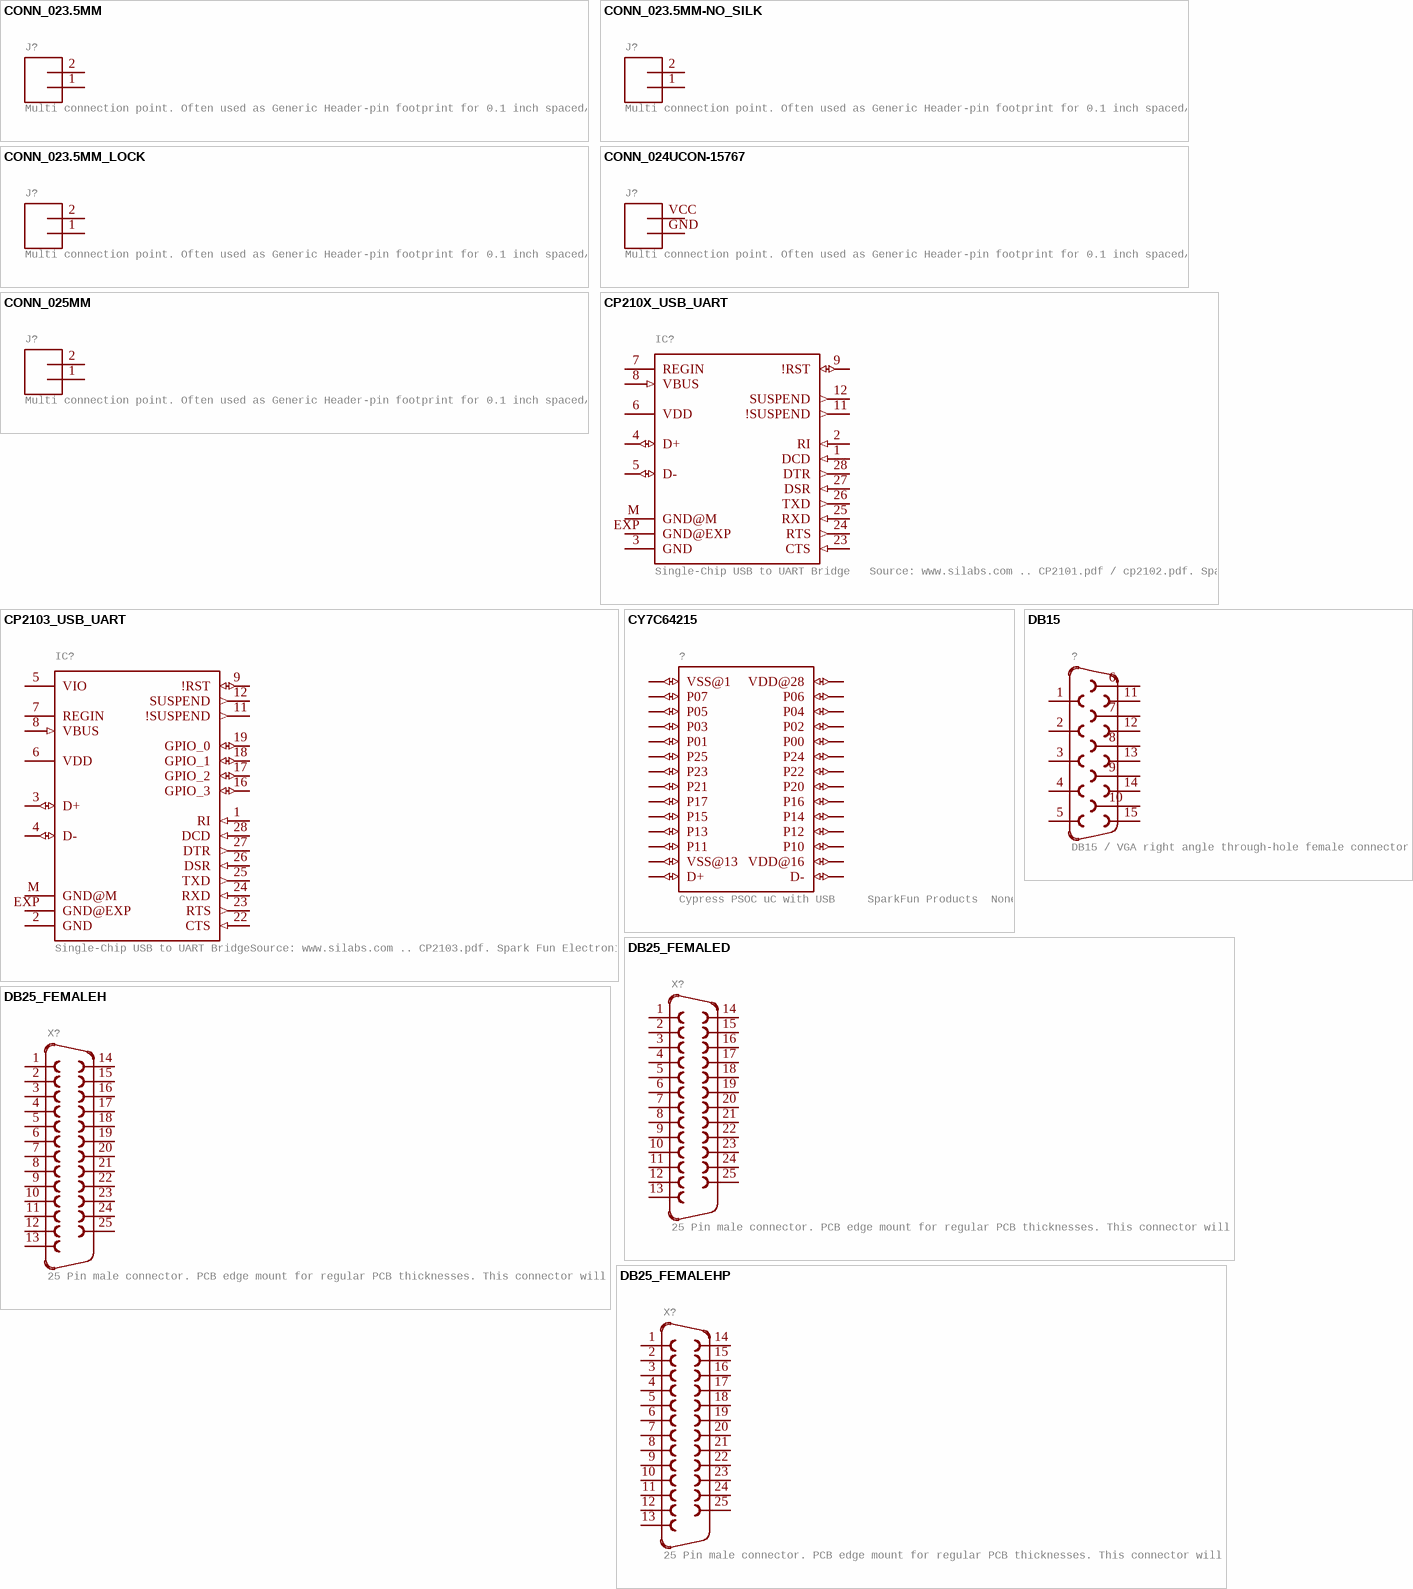
[diagram p8: symbols CONN_023.5MM to DB25_FEMALEHP]

## CONN_023.5MM
designator J?, comment Multi connection point. Often used as Generic Header-pin footprint for 0.1 inch spaced/style header connections    On any of the 0.1 inch spaced packages, you can populate with these:  Break Away Headers - Straight (PRT-00116)   Break Away Male Headers - Right Angle (PRT-00553)   Female Headers (PRT-00115)   Break Away Headers - Machine Pin (PRT-00117)   Break Away Female Headers - Swiss Machine Pin (PRT-00743)        For SCREWTERMINALS and SPRING TERMINALS visit here:  Screw Terimnals on SparkFun.com (5mm/3.5mm/2.54mm spacing)       This device is also useful as a general connection point to wire up your design to another part of your project. Our various solder wires solder well into these plated through hole pads.  Hook-Up Wire - Assortment (Stranded, 22 AWG) (PRT-11375)   Hook-Up Wire - Assortment (Solid Core, 22 AWG) (PRT-11367)   View the entire wire category on our website here          Special notes: Molex polarized connector foot print use with: PRT-08233 with associated crimp pins and housings.  2.54_SCREWTERM for use with  PRT-10571.  3.5mm Screw Terminal footprints for  PRT-08084  5mm Screw Terminal footprints for use with PRT-08432
GateName_1: G$1; SymbolName_1: CONN_02; PROD_ID: CONN-08399; DeviceName: 3.5MM; LibraryName: SparkFun-Retired; DeviceSetName: CONN_02; Package: SCREWTERMINAL-3.5MM-2
footprint SCREWTERMINAL-3.5MM-2
pins: 1, 2

## CONN_023.5MM-NO_SILK
designator J?, comment Multi connection point. Often used as Generic Header-pin footprint for 0.1 inch spaced/style header connections    On any of the 0.1 inch spaced packages, you can populate with these:  Break Away Headers - Straight (PRT-00116)   Break Away Male Headers - Right Angle (PRT-00553)   Female Headers (PRT-00115)   Break Away Headers - Machine Pin (PRT-00117)   Break Away Female Headers - Swiss Machine Pin (PRT-00743)        For SCREWTERMINALS and SPRING TERMINALS visit here:  Screw Terimnals on SparkFun.com (5mm/3.5mm/2.54mm spacing)       This device is also useful as a general connection point to wire up your design to another part of your project. Our various solder wires solder well into these plated through hole pads.  Hook-Up Wire - Assortment (Stranded, 22 AWG) (PRT-11375)   Hook-Up Wire - Assortment (Solid Core, 22 AWG) (PRT-11367)   View the entire wire category on our website here          Special notes: Molex polarized connector foot print use with: PRT-08233 with associated crimp pins and housings.  2.54_SCREWTERM for use with  PRT-10571.  3.5mm Screw Terminal footprints for  PRT-08084  5mm Screw Terminal footprints for use with PRT-08432
GateName_1: G$1; SymbolName_1: CONN_02; DeviceName: 3.5MM-NO_SILK; PROD_ID: CONN-08399; LibraryName: SparkFun-Retired; DeviceSetName: CONN_02; Package: SCREWTERMINAL-3.5MM-2-NS
footprint SCREWTERMINAL-3.5MM-2-NS
pins: 1, 2

## CONN_023.5MM_LOCK
designator J?, comment Multi connection point. Often used as Generic Header-pin footprint for 0.1 inch spaced/style header connections    On any of the 0.1 inch spaced packages, you can populate with these:  Break Away Headers - Straight (PRT-00116)   Break Away Male Headers - Right Angle (PRT-00553)   Female Headers (PRT-00115)   Break Away Headers - Machine Pin (PRT-00117)   Break Away Female Headers - Swiss Machine Pin (PRT-00743)        For SCREWTERMINALS and SPRING TERMINALS visit here:  Screw Terimnals on SparkFun.com (5mm/3.5mm/2.54mm spacing)       This device is also useful as a general connection point to wire up your design to another part of your project. Our various solder wires solder well into these plated through hole pads.  Hook-Up Wire - Assortment (Stranded, 22 AWG) (PRT-11375)   Hook-Up Wire - Assortment (Solid Core, 22 AWG) (PRT-11367)   View the entire wire category on our website here          Special notes: Molex polarized connector foot print use with: PRT-08233 with associated crimp pins and housings.  2.54_SCREWTERM for use with  PRT-10571.  3.5mm Screw Terminal footprints for  PRT-08084  5mm Screw Terminal footprints for use with PRT-08432
GateName_1: G$1; SymbolName_1: CONN_02; DeviceName: 3.5MM_LOCK; PROD_ID: CONN-08399; LibraryName: SparkFun-Retired; DeviceSetName: CONN_02; Package: SCREWTERMINAL-3.5MM-2_LOCK
footprint SCREWTERMINAL-3.5MM-2_LOCK
pins: 1, 2

## CONN_024UCON-15767
designator J?, comment Multi connection point. Often used as Generic Header-pin footprint for 0.1 inch spaced/style header connections    On any of the 0.1 inch spaced packages, you can populate with these:  Break Away Headers - Straight (PRT-00116)   Break Away Male Headers - Right Angle (PRT-00553)   Female Headers (PRT-00115)   Break Away Headers - Machine Pin (PRT-00117)   Break Away Female Headers - Swiss Machine Pin (PRT-00743)        For SCREWTERMINALS and SPRING TERMINALS visit here:  Screw Terimnals on SparkFun.com (5mm/3.5mm/2.54mm spacing)       This device is also useful as a general connection point to wire up your design to another part of your project. Our various solder wires solder well into these plated through hole pads.  Hook-Up Wire - Assortment (Stranded, 22 AWG) (PRT-11375)   Hook-Up Wire - Assortment (Solid Core, 22 AWG) (PRT-11367)   View the entire wire category on our website here          Special notes: Molex polarized connector foot print use with: PRT-08233 with associated crimp pins and housings.  2.54_SCREWTERM for use with  PRT-10571.  3.5mm Screw Terminal footprints for  PRT-08084  5mm Screw Terminal footprints for use with PRT-08432
GateName_1: G$1; SymbolName_1: CONN_02; DeviceName: 4UCON-15767; LibraryName: SparkFun-Retired; DeviceSetName: CONN_02; Package: JST-2-SMD-VERT
footprint JST-2-SMD-VERT
pins: GND 1, VCC 2

## CONN_025MM
designator J?, comment Multi connection point. Often used as Generic Header-pin footprint for 0.1 inch spaced/style header connections    On any of the 0.1 inch spaced packages, you can populate with these:  Break Away Headers - Straight (PRT-00116)   Break Away Male Headers - Right Angle (PRT-00553)   Female Headers (PRT-00115)   Break Away Headers - Machine Pin (PRT-00117)   Break Away Female Headers - Swiss Machine Pin (PRT-00743)        For SCREWTERMINALS and SPRING TERMINALS visit here:  Screw Terimnals on SparkFun.com (5mm/3.5mm/2.54mm spacing)       This device is also useful as a general connection point to wire up your design to another part of your project. Our various solder wires solder well into these plated through hole pads.  Hook-Up Wire - Assortment (Stranded, 22 AWG) (PRT-11375)   Hook-Up Wire - Assortment (Solid Core, 22 AWG) (PRT-11367)   View the entire wire category on our website here          Special notes: Molex polarized connector foot print use with: PRT-08233 with associated crimp pins and housings.  2.54_SCREWTERM for use with  PRT-10571.  3.5mm Screw Terminal footprints for  PRT-08084  5mm Screw Terminal footprints for use with PRT-08432
GateName_1: G$1; SymbolName_1: CONN_02; DeviceName: 5MM; LibraryName: SparkFun-Retired; DeviceSetName: CONN_02; Package: SCREWTERMINAL-5MM-2; SF_SKU: PRT-08432
footprint SCREWTERMINAL-5MM-2
pins: 1, 2

## CP210X_USB_UART
designator IC?, comment Single-Chip USB to UART Bridge   Source: www.silabs.com .. CP2101.pdf / cp2102.pdf. Spark Fun Electronics SKU : COM-00310   RETIRED: IC-00865
GateName_1: G$1; SymbolName_1: CP2101; DeviceSetName: CP210X_USB_UART; LibraryName: SparkFun-Retired; Package: MLP28; PROD_ID: COM-00310
footprint MLP28
pins: 1 DCD (in), 2 RI (in), 3 GND (power), 4 D+ (io), 5 D- (io), 6 VDD (power), 7 REGIN, 8 VBUS (in), 9 !RST (io), 11 !SUSPEND (out), 12 SUSPEND (out), 23 CTS (in), 24 RTS (out), 25 RXD (in), 26 TXD (out), 27 DSR (in), 28 DTR (out), EXP GND@EXP (power), M GND@M (power)

## CP2103_USB_UART
designator IC?, comment Single-Chip USB to UART BridgeSource: www.silabs.com .. CP2103.pdf. Spark Fun Electronics SKU : COM-00309   Retired: IC-00866
GateName_1: G$1; SymbolName_1: CP2103; DeviceSetName: CP2103_USB_UART; LibraryName: SparkFun-Retired; Package: MLP28; PROD_ID: COM-00309
footprint MLP28
pins: 1 RI (in), 2 GND (power), 3 D+ (io), 4 D- (io), 5 VIO (power), 6 VDD (power), 7 REGIN, 8 VBUS (in), 9 !RST (io), 11 !SUSPEND (out), 12 SUSPEND (out), 16 GPIO_3 (io), 17 GPIO_2 (io), 18 GPIO_1 (io), 19 GPIO_0 (io), 22 CTS (in), 23 RTS (out), 24 RXD (in), 25 TXD (out), 26 DSR (in), 27 DTR (out), 28 DCD (in), EXP GND@EXP (power), M GND@M (power)

## CREATIVE_COMMONS
designator CC_TEXT?, comment Creative Commons License summary- RETIRED. Please use parts FRAME-LETTER/FRAME-LEDGER to add this to both schematic and board file.  (value not drawn)
GateName_1: G$1; SymbolName_1: CREATIVE_COMMONS; LibraryName: SparkFun-Retired; DeviceSetName: CREATIVE_COMMONS; Package: CREATIVE_COMMONS
footprint CREATIVE_COMMONS

## CY7C64215
designator ?, comment Cypress PSOC uC with USB     SparkFun Products  None
GateName_1: G$1; SymbolName_1: CY7C64215; LibraryName: SparkFun-Retired; DeviceSetName: CY7C64215; Package: SSOP28DB_MCU
footprint SSOP28DB_MCU
pins: 1 VSS@1 (io), 2 P07 (io), 3 P05 (io), 4 P03 (io), 5 P01 (io), 6 P25 (io), 7 P23 (io), 8 P21 (io), 9 P17 (io), 10 P15 (io), 11 P13 (io), 12 P11 (io), 13 VSS@13 (io), 14 D+ (io), 15 D- (io), 16 VDD@16 (io), 17 P10 (io), 18 P12 (io), 19 P14 (io), 20 P16 (io), 21 P20 (io), 22 P22 (io), 23 P24 (io), 24 P00 (io), 25 P02 (io), 26 P04 (io), 27 P06 (io), 28 VDD@28 (io)

## DB15
designator ?, comment DB15 / VGA right angle through-hole female connector.
GateName_1: G$1; SymbolName_1: DB15; LibraryName: SparkFun-Retired; DeviceSetName: DB15; Package: DB15
footprint DB15
pins: 1, 2, 3, 4, 5, 6, 7, 8, 9, 10, 11, 12, 13, 14, 15

## DB25_FEMALED
designator X?, comment 25 Pin male connector. PCB edge mount for regular PCB thicknesses. This connector will connect directly to the back of a PC parallel port or through a normal DB25 extension cable (M/F). SKU: PRT-08287
GateName_1: -1; SymbolName_1: F25; DeviceName: D; DeviceSetName: DB25_FEMALE; LibraryName: SparkFun-Retired; Package: F25D
footprint F25D
pins: 1, 2, 3, 4, 5, 6, 7, 8, 9, 10, 11, 12, 13, 14, 15, 16, 17, 18, 19, 20, 21, 22, 23, 24, 25

## DB25_FEMALEH
designator X?, comment 25 Pin male connector. PCB edge mount for regular PCB thicknesses. This connector will connect directly to the back of a PC parallel port or through a normal DB25 extension cable (M/F). SKU: PRT-08287
GateName_1: -1; SymbolName_1: F25; DeviceName: H; DeviceSetName: DB25_FEMALE; LibraryName: SparkFun-Retired; Package: F25H
footprint F25H
pins: 1, 2, 3, 4, 5, 6, 7, 8, 9, 10, 11, 12, 13, 14, 15, 16, 17, 18, 19, 20, 21, 22, 23, 24, 25

## DB25_FEMALEHP
designator X?, comment 25 Pin male connector. PCB edge mount for regular PCB thicknesses. This connector will connect directly to the back of a PC parallel port or through a normal DB25 extension cable (M/F). SKU: PRT-08287
GateName_1: -1; SymbolName_1: F25; DeviceName: HP; DeviceSetName: DB25_FEMALE; LibraryName: SparkFun-Retired; Package: F25HP
footprint F25HP
pins: 1, 2, 3, 4, 5, 6, 7, 8, 9, 10, 11, 12, 13, 14, 15, 16, 17, 18, 19, 20, 21, 22, 23, 24, 25

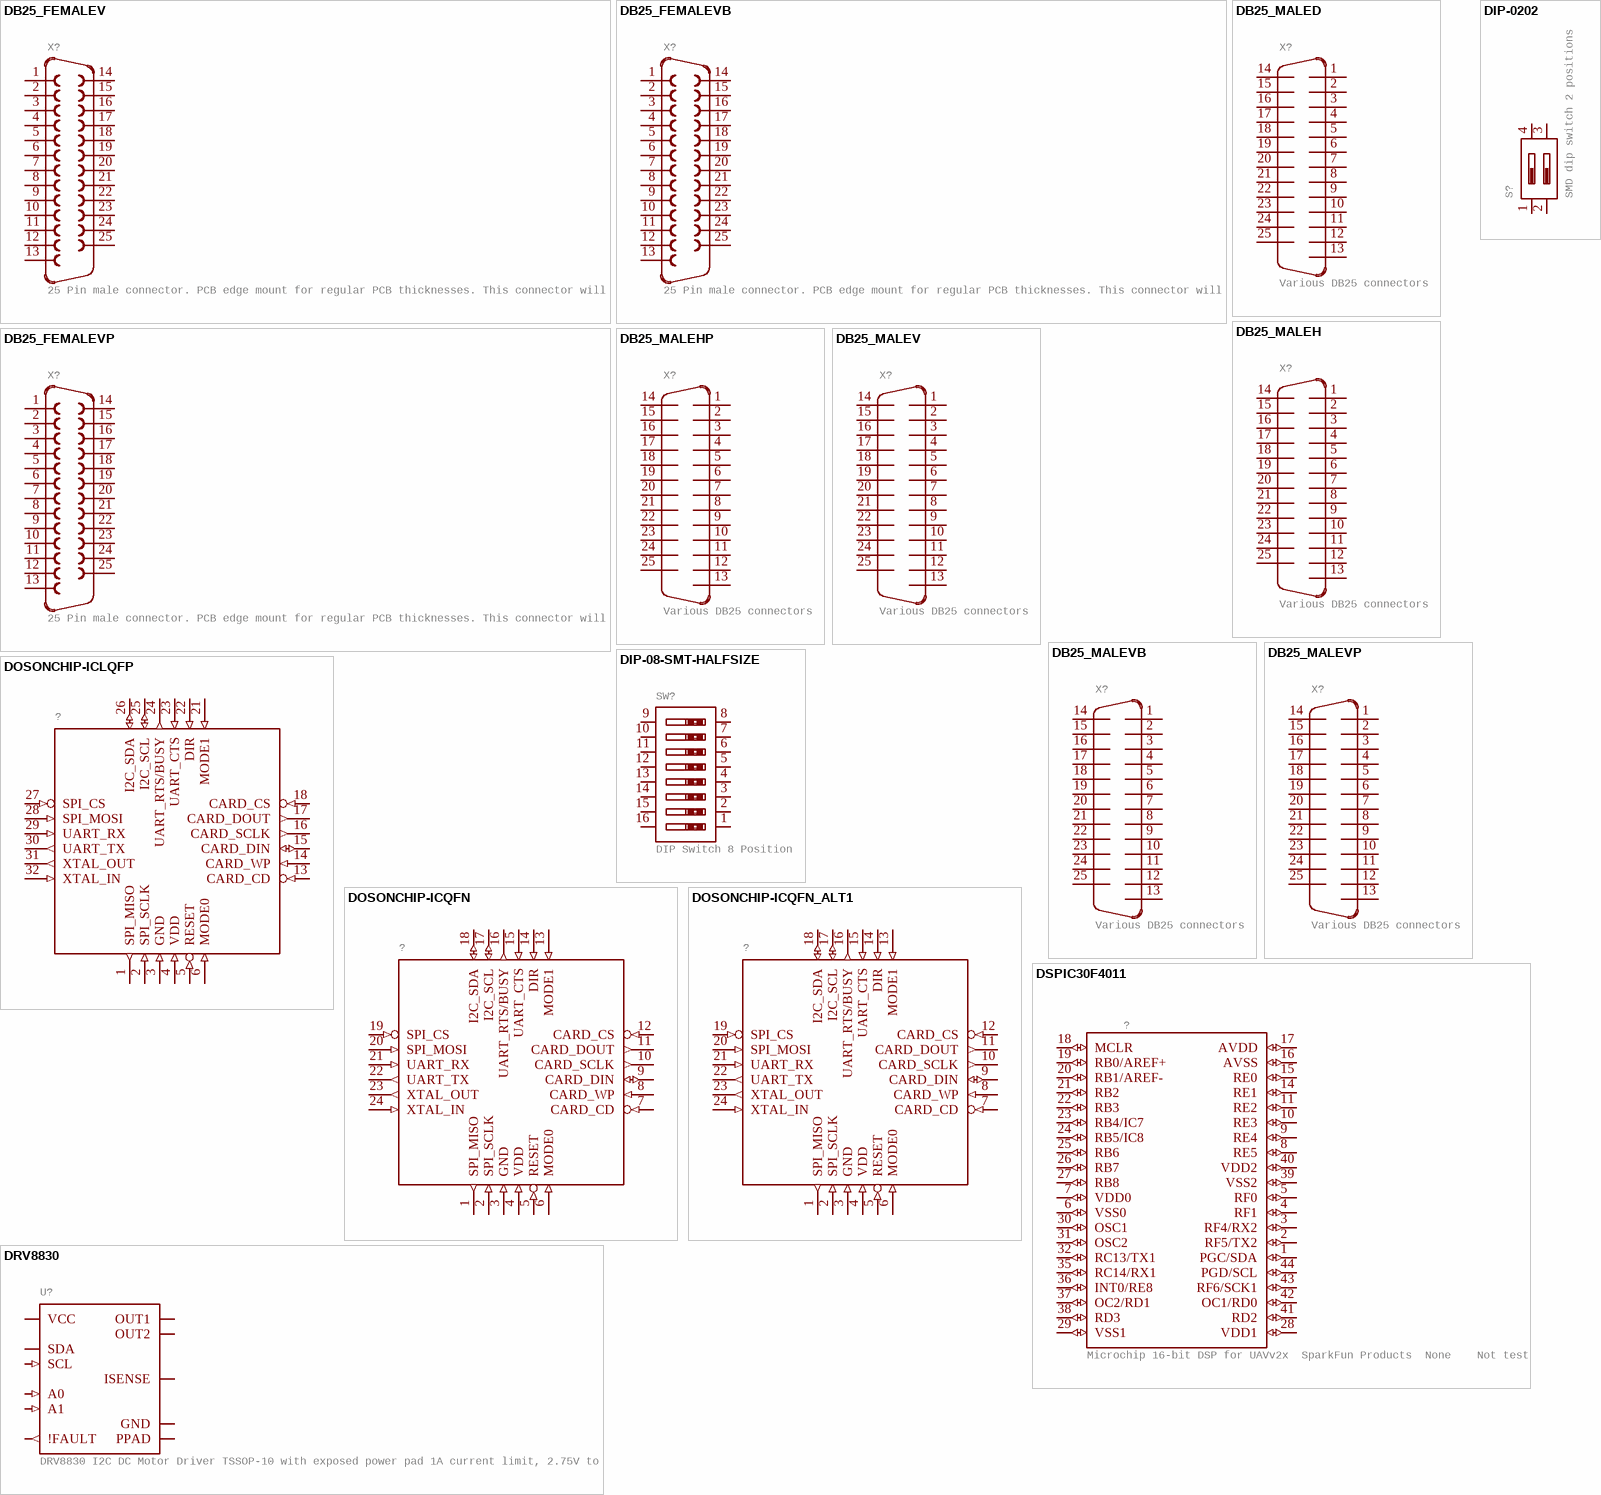
[diagram p9: symbols DB25_FEMALEV to DSPIC30F4011]

## DB25_FEMALEV
designator X?, comment 25 Pin male connector. PCB edge mount for regular PCB thicknesses. This connector will connect directly to the back of a PC parallel port or through a normal DB25 extension cable (M/F). SKU: PRT-08287
GateName_1: -1; SymbolName_1: F25; DeviceName: V; DeviceSetName: DB25_FEMALE; LibraryName: SparkFun-Retired; Package: F25V
footprint F25V
pins: 1, 2, 3, 4, 5, 6, 7, 8, 9, 10, 11, 12, 13, 14, 15, 16, 17, 18, 19, 20, 21, 22, 23, 24, 25

## DB25_FEMALEVB
designator X?, comment 25 Pin male connector. PCB edge mount for regular PCB thicknesses. This connector will connect directly to the back of a PC parallel port or through a normal DB25 extension cable (M/F). SKU: PRT-08287
GateName_1: -1; SymbolName_1: F25; DeviceName: VB; DeviceSetName: DB25_FEMALE; LibraryName: SparkFun-Retired; Package: F25VB
footprint F25VB
pins: 1, 2, 3, 4, 5, 6, 7, 8, 9, 10, 11, 12, 13, 14, 15, 16, 17, 18, 19, 20, 21, 22, 23, 24, 25

## DB25_FEMALEVP
designator X?, comment 25 Pin male connector. PCB edge mount for regular PCB thicknesses. This connector will connect directly to the back of a PC parallel port or through a normal DB25 extension cable (M/F). SKU: PRT-08287
GateName_1: -1; SymbolName_1: F25; DeviceName: VP; DeviceSetName: DB25_FEMALE; LibraryName: SparkFun-Retired; Package: F25VP
footprint F25VP
pins: 1, 2, 3, 4, 5, 6, 7, 8, 9, 10, 11, 12, 13, 14, 15, 16, 17, 18, 19, 20, 21, 22, 23, 24, 25

## DB25_MALED
designator X?, comment Various DB25 connectors
GateName_1: -1; DeviceName: D; DeviceSetName: DB25_MALE; SymbolName_1: DB25; LibraryName: SparkFun-Retired; Package: M25D
footprint M25D
pins: 1, 2, 3, 4, 5, 6, 7, 8, 9, 10, 11, 12, 13, 14, 15, 16, 17, 18, 19, 20, 21, 22, 23, 24, 25

## DB25_MALEH
designator X?, comment Various DB25 connectors
GateName_1: -1; DeviceName: H; DeviceSetName: DB25_MALE; SymbolName_1: DB25; LibraryName: SparkFun-Retired; Package: M25H
footprint M25H
pins: 1, 2, 3, 4, 5, 6, 7, 8, 9, 10, 11, 12, 13, 14, 15, 16, 17, 18, 19, 20, 21, 22, 23, 24, 25

## DB25_MALEHP
designator X?, comment Various DB25 connectors
GateName_1: -1; DeviceName: HP; DeviceSetName: DB25_MALE; SymbolName_1: DB25; LibraryName: SparkFun-Retired; Package: M25HP
footprint M25HP
pins: 1, 2, 3, 4, 5, 6, 7, 8, 9, 10, 11, 12, 13, 14, 15, 16, 17, 18, 19, 20, 21, 22, 23, 24, 25

## DB25_MALEV
designator X?, comment Various DB25 connectors
GateName_1: -1; DeviceName: V; DeviceSetName: DB25_MALE; SymbolName_1: DB25; LibraryName: SparkFun-Retired; Package: M25V
footprint M25V
pins: 1, 2, 3, 4, 5, 6, 7, 8, 9, 10, 11, 12, 13, 14, 15, 16, 17, 18, 19, 20, 21, 22, 23, 24, 25

## DB25_MALEVB
designator X?, comment Various DB25 connectors
GateName_1: -1; DeviceName: VB; DeviceSetName: DB25_MALE; SymbolName_1: DB25; LibraryName: SparkFun-Retired; Package: M25VB
footprint M25VB
pins: 1, 2, 3, 4, 5, 6, 7, 8, 9, 10, 11, 12, 13, 14, 15, 16, 17, 18, 19, 20, 21, 22, 23, 24, 25

## DB25_MALEVP
designator X?, comment Various DB25 connectors
GateName_1: -1; DeviceName: VP; DeviceSetName: DB25_MALE; SymbolName_1: DB25; LibraryName: SparkFun-Retired; Package: M25VP
footprint M25VP
pins: 1, 2, 3, 4, 5, 6, 7, 8, 9, 10, 11, 12, 13, 14, 15, 16, 17, 18, 19, 20, 21, 22, 23, 24, 25

## DIP-08-SMT-HALFSIZE
designator SW?, comment DIP Switch 8 Position
GateName_1: A; SymbolName_1: SW_DIP-8; DeviceName: -SMT-HALFSIZE; DeviceSetName: DIP-08; LibraryName: SparkFun-Retired; Package: DIPSWITCH-08-50MIL
footprint DIPSWITCH-08-50MIL
pins: 1, 2, 3, 4, 5, 6, 7, 8, 9, 10, 11, 12, 13, 14, 15, 16

## DIP-0202
designator S?, comment SMD dip switch 2 positions
GateName_1: G$1; SymbolName_1: 2-POS-DIP; DeviceName: 02; DeviceSetName: DIP-02; LibraryName: SparkFun-Retired; Package: DIPSWITCH-02
footprint DIPSWITCH-02
pins: 1 P$1 (io), 2 P$2 (io), 3 P$3 (io), 4 P$4 (io)

## DOSONCHIP-ICLQFP
designator ?, comment DOSonCHIP ICThis is the tested schematic and footprint for the DOSonCHIP FAT16 FAT32 IC. Spark Fun Electronics SKU : COM-07956. QFN package also tested/proven.  (value not drawn)
GateName_1: G$1; SymbolName_1: DOSONCHIP-IC; DeviceName: LQFP; LibraryName: SparkFun-Retired; DeviceSetName: DOSONCHIP-IC; Package: LQFP-32
footprint LQFP-32
pins: 1 SPI_MISO (out), 2 SPI_SCLK (in), 3 GND (in), 4 VDD (in), 5 RESET (in), 6 MODE0 (in), 13 CARD_CD (in), 14 CARD_WP (in), 15 CARD_DIN (io), 16 CARD_SCLK (out), 17 CARD_DOUT (out), 18 CARD_CS (in), 21 MODE1 (in), 22 DIR (in), 23 UART_CTS (in), 24 UART_RTS/BUSY (out), 25 I2C_SCL (io), 26 I2C_SDA (io), 27 SPI_CS (in), 28 SPI_MOSI (in), 29 UART_RX (in), 30 UART_TX (out), 31 XTAL_OUT (out), 32 XTAL_IN (in)

## DOSONCHIP-ICQFN
designator ?, comment DOSonCHIP ICThis is the tested schematic and footprint for the DOSonCHIP FAT16 FAT32 IC. Spark Fun Electronics SKU : COM-07956. QFN package also tested/proven.  (value not drawn)
GateName_1: G$1; SymbolName_1: DOSONCHIP-IC; DeviceName: QFN; LibraryName: SparkFun-Retired; DeviceSetName: DOSONCHIP-IC; Package: QFN-24
footprint QFN-24
pins: 1 SPI_MISO (out), 2 SPI_SCLK (in), 3 GND (in), 4 VDD (in), 5 RESET (in), 6 MODE0 (in), 7 CARD_CD (in), 8 CARD_WP (in), 9 CARD_DIN (io), 10 CARD_SCLK (out), 11 CARD_DOUT (out), 12 CARD_CS (in), 13 MODE1 (in), 14 DIR (in), 15 UART_CTS (in), 16 UART_RTS/BUSY (out), 17 I2C_SCL (io), 18 I2C_SDA (io), 19 SPI_CS (in), 20 SPI_MOSI (in), 21 UART_RX (in), 22 UART_TX (out), 23 XTAL_OUT (out), 24 XTAL_IN (in)